# Altium footprint library Connector_PinSocket_2.54mm.PcbLib: 278 footprints (part 1 of 18)
Each footprint in its own frame and in the unit in brackets; x right, y up, seen from the top. Pads: shape width x height; smd on the part's side, far side on the other; paste and mask are expansions set on the pad; w line width, h text height; cw(c..) or ccw(c..) is an arc to the next point about the centre after c.
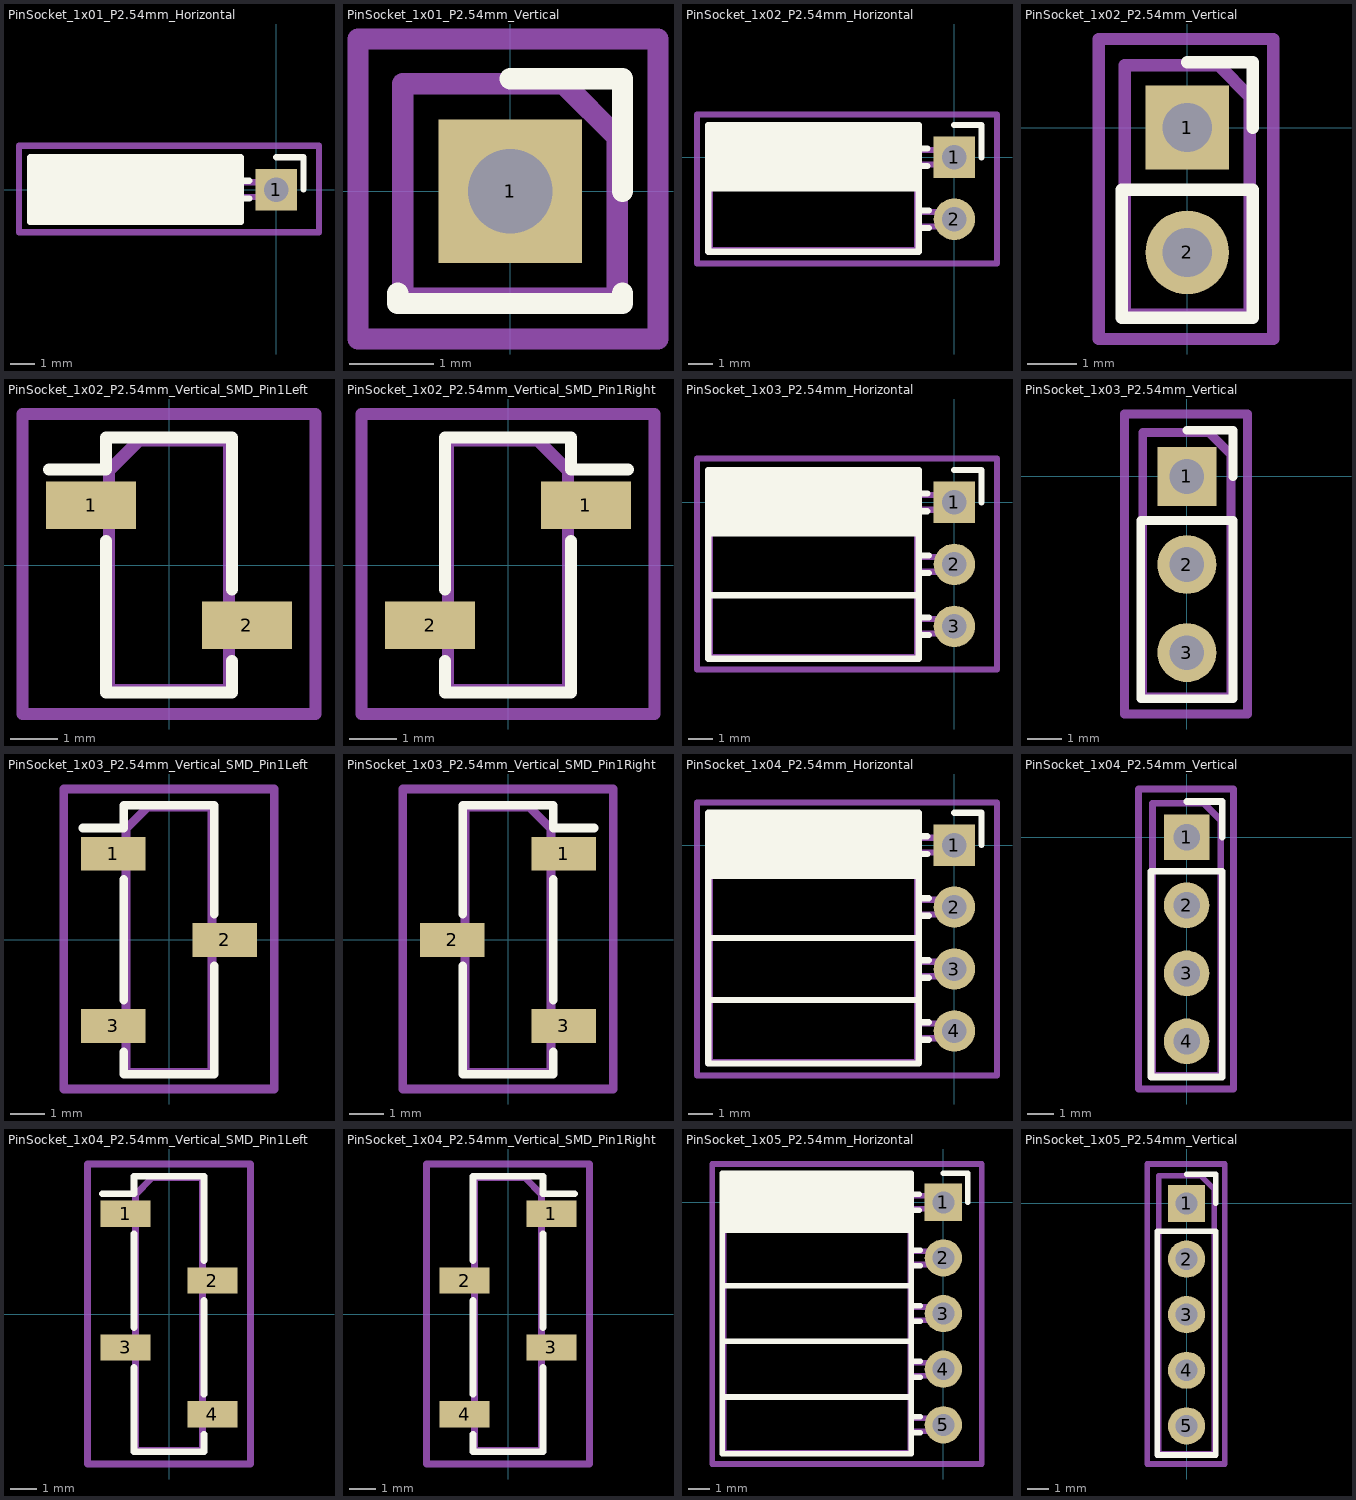
[diagram p0: the footprints below, top view; thin cyan lines are the x and y axes]

## PinSocket_1x01_P2.54mm_Horizontal [mm]
pads (1):
  rect 1.7x1.7 hole 1: 1(0,0)
F.SilkS:
  lines w0.254: -10.09,-1.215 -1.46,-1.215 ; -10.09,-1.099 -1.46,-1.099 ; -10.09,-0.984 -1.46,-0.984 ; -10.09,-0.868 -1.46,-0.868 ; -10.09,-0.753 -1.46,-0.753 ; -10.09,-0.637 -1.46,-0.637 ; -10.09,-0.522 -1.46,-0.522 ; -10.09,-0.406 -1.46,-0.406 ; -10.09,-0.291 -1.46,-0.291 ; -10.09,-0.175 -1.46,-0.175 ; -10.09,-0.06 -1.46,-0.06 ; -10.09,0.055 -1.46,0.055 ; -10.09,0.171 -1.46,0.171 ; -10.09,0.286 -1.46,0.286 ; -10.09,0.402 -1.46,0.402 ; -10.09,0.517 -1.46,0.517 ; -10.09,0.633 -1.46,0.633 ; -10.09,0.748 -1.46,0.748 ; -10.09,0.864 -1.46,0.864 ; -10.09,0.979 -1.46,0.979 ; -10.09,1.095 -1.46,1.095 ; -10.09,1.21 -1.46,1.21 ; -1.46,-0.36 -1.11,-0.36 ; -1.46,0.36 -1.11,0.36 ; 0,1.33 1.11,1.33 1.11,0 ; -10.09,-1.33 -1.46,-1.33 -1.46,1.33 -10.09,1.33 -10.09,-1.33
Top Assembly:
  lines w0.254: -1.52,-0.3 0,-0.3 0,0.3 -1.52,0.3 ; -10.03,-1.27 -1.52,-1.27 -1.52,0.635 -2.155,1.27 -10.03,1.27 -10.03,-1.27
  text "'.Designator'" at -9.822,-0.84 h1
Top Courtyard:
  lines w0.254: -10.55,-1.75 1.75,-1.75 1.75,1.8 -10.55,1.8 -10.55,-1.75
Top Designator:
  text ".Designator" at -12.018,-0.483 h1.52

## PinSocket_1x01_P2.54mm_Vertical [mm]
pads (1):
  rect 1.7x1.7 hole 1: 1(0,0)
F.SilkS:
  lines w0.254: -1.33,-1.21 -1.33,-1.33 1.33,-1.33 1.33,-1.21 ; 0,1.33 1.33,1.33 1.33,0
Top Assembly:
  lines w0.254: -1.27,-1.27 1.27,-1.27 1.27,0.635 0.635,1.27 -1.27,1.27 -1.27,-1.27
  text "'.Designator'" at -4.047,-0.84 h1
Top Courtyard:
  lines w0.254: -1.8,-1.75 1.75,-1.75 1.75,1.8 -1.8,1.8 -1.8,-1.75
Top Designator:
  text ".Designator" at -7.768,-0.483 h1.52

## PinSocket_1x02_P2.54mm_Horizontal [mm]
pads (2):
  rect 1.7x1.7 hole 1: 1(0,0)
  round 1.7 hole 1: 2(0,-2.54)
F.SilkS:
  lines w0.254: -10.09,-1.27 -1.46,-1.27 ; -10.09,-1.152 -1.46,-1.152 ; -10.09,-1.034 -1.46,-1.034 ; -10.09,-0.916 -1.46,-0.916 ; -10.09,-0.798 -1.46,-0.798 ; -10.09,-0.68 -1.46,-0.68 ; -10.09,-0.561 -1.46,-0.561 ; -10.09,-0.443 -1.46,-0.443 ; -10.09,-0.325 -1.46,-0.325 ; -10.09,-0.207 -1.46,-0.207 ; -10.09,-0.089 -1.46,-0.089 ; -10.09,0.029 -1.46,0.029 ; -10.09,0.147 -1.46,0.147 ; -10.09,0.265 -1.46,0.265 ; -10.09,0.383 -1.46,0.383 ; -10.09,0.501 -1.46,0.501 ; -10.09,0.62 -1.46,0.62 ; -10.09,0.738 -1.46,0.738 ; -10.09,0.856 -1.46,0.856 ; -10.09,0.974 -1.46,0.974 ; -10.09,1.092 -1.46,1.092 ; -10.09,1.21 -1.46,1.21 ; -1.46,-2.9 -1.05,-2.9 ; -1.46,-2.18 -1.05,-2.18 ; -1.46,-0.36 -1.11,-0.36 ; -1.46,0.36 -1.11,0.36 ; 0,1.33 1.11,1.33 1.11,0 ; -10.09,-3.87 -1.46,-3.87 -1.46,1.33 -10.09,1.33 -10.09,-3.87
Top Assembly:
  lines w0.254: -1.52,-2.84 0,-2.84 0,-2.24 -1.52,-2.24 ; -1.52,-0.3 0,-0.3 0,0.3 -1.52,0.3 ; -1.52,0.3 -1.52,-3.81 -10.03,-3.81 -10.03,1.27 -2.49,1.27 -1.52,0.3
  text "'.Designator'" at -9.822,-2.11 h1
Top Courtyard:
  lines w0.254: -10.55,-4.35 1.75,-4.35 1.75,1.75 -10.55,1.75 -10.55,-4.35
Top Designator:
  text ".Designator" at -12.018,-1.808 h1.52

## PinSocket_1x02_P2.54mm_Vertical [mm]
pads (2):
  rect 1.7x1.7 hole 1: 1(0,0)
  round 1.7 hole 1: 2(0,-2.54)
F.SilkS:
  lines w0.254: 0,1.33 1.33,1.33 1.33,0 ; -1.33,-3.87 1.33,-3.87 1.33,-1.27 -1.33,-1.27 -1.33,-3.87
Top Assembly:
  lines w0.254: -1.27,-3.81 1.27,-3.81 1.27,0.635 0.635,1.27 -1.27,1.27 -1.27,-3.81
  text "'.Designator'" at 0.84,-5.317 h1
Top Courtyard:
  lines w0.254: -1.8,-4.3 1.75,-4.3 1.75,1.8 -1.8,1.8 -1.8,-4.3
Top Designator:
  text ".Designator" at -7.643,-1.928 h1.52

## PinSocket_1x02_P2.54mm_Vertical_SMD_Pin1Left [mm]
pads (2):
  rect 1.9x1 smd: 1(-1.65,1.27) 2(1.65,-1.27)
F.SilkS:
  lines w0.254: -2.54,2.03 -1.33,2.03 -1.33,2.7 1.33,2.7 1.33,-0.51 ; -1.33,0.51 -1.33,-2.7 1.33,-2.7 1.33,-2.03
Top Assembly:
  lines w0.254: -1.27,0.97 -2.27,0.97 -2.27,1.57 -1.27,1.57 ; 1.27,-1.57 2.27,-1.57 2.27,-0.97 1.27,-0.97 ; -1.27,-2.64 1.27,-2.64 1.27,2.64 -0.635,2.64 -1.27,2.005 -1.27,-2.64
  text "'.Designator'" at 0.84,-4.047 h1
Top Courtyard:
  lines w0.254: -3.1,-3.15 3.1,-3.15 3.1,3.2 -3.1,3.2 -3.1,-3.15
Top Designator:
  text ".Designator" at -7.618,-0.658 h1.52

## PinSocket_1x02_P2.54mm_Vertical_SMD_Pin1Right [mm]
pads (2):
  rect 1.9x1 smd: 1(1.65,1.27) 2(-1.65,-1.27)
F.SilkS:
  lines w0.254: -1.33,-2.03 -1.33,-2.7 1.33,-2.7 1.33,0.51 ; -1.33,-0.51 -1.33,2.7 1.33,2.7 1.33,2.03 2.54,2.03
Top Assembly:
  lines w0.254: -1.27,-1.57 -2.27,-1.57 -2.27,-0.97 -1.27,-0.97 ; 1.27,0.97 2.27,0.97 2.27,1.57 1.27,1.57 ; -1.27,-2.64 1.27,-2.64 1.27,2.005 0.635,2.64 -1.27,2.64 -1.27,-2.64
  text "'.Designator'" at 0.84,-4.047 h1
Top Courtyard:
  lines w0.254: -3.1,-3.15 3.1,-3.15 3.1,3.2 -3.1,3.2 -3.1,-3.15
Top Designator:
  text ".Designator" at -7.618,-0.658 h1.52

## PinSocket_1x03_P2.54mm_Horizontal [mm]
pads (3):
  rect 1.7x1.7 hole 1: 1(0,0)
  round 1.7 hole 1: 2(0,-2.54) 3(0,-5.08)
F.SilkS:
  lines w0.254: -10.09,-3.81 -1.46,-3.81 ; -10.09,-1.27 -1.46,-1.27 ; -10.09,-1.152 -1.46,-1.152 ; -10.09,-1.034 -1.46,-1.034 ; -10.09,-0.916 -1.46,-0.916 ; -10.09,-0.798 -1.46,-0.798 ; -10.09,-0.68 -1.46,-0.68 ; -10.09,-0.561 -1.46,-0.561 ; -10.09,-0.443 -1.46,-0.443 ; -10.09,-0.325 -1.46,-0.325 ; -10.09,-0.207 -1.46,-0.207 ; -10.09,-0.089 -1.46,-0.089 ; -10.09,0.029 -1.46,0.029 ; -10.09,0.147 -1.46,0.147 ; -10.09,0.265 -1.46,0.265 ; -10.09,0.383 -1.46,0.383 ; -10.09,0.501 -1.46,0.501 ; -10.09,0.62 -1.46,0.62 ; -10.09,0.738 -1.46,0.738 ; -10.09,0.856 -1.46,0.856 ; -10.09,0.974 -1.46,0.974 ; -10.09,1.092 -1.46,1.092 ; -10.09,1.21 -1.46,1.21 ; -1.46,-5.44 -1.05,-5.44 ; -1.46,-4.72 -1.05,-4.72 ; -1.46,-2.9 -1.05,-2.9 ; -1.46,-2.18 -1.05,-2.18 ; -1.46,-0.36 -1.11,-0.36 ; -1.46,0.36 -1.11,0.36 ; 0,1.33 1.11,1.33 1.11,0 ; -10.09,-6.41 -1.46,-6.41 -1.46,1.33 -10.09,1.33 -10.09,-6.41
Top Assembly:
  lines w0.254: -1.52,-5.38 0,-5.38 0,-4.78 -1.52,-4.78 ; -1.52,-2.84 0,-2.84 0,-2.24 -1.52,-2.24 ; -1.52,-0.3 0,-0.3 0,0.3 -1.52,0.3 ; -1.52,0.3 -1.52,-6.35 -10.03,-6.35 -10.03,1.27 -2.49,1.27 -1.52,0.3
  text "'.Designator'" at -9.822,-3.38 h1
Top Courtyard:
  lines w0.254: -10.55,-6.85 1.75,-6.85 1.75,1.8 -10.55,1.8 -10.55,-6.85
Top Designator:
  text ".Designator" at -12.018,-3.033 h1.52

## PinSocket_1x03_P2.54mm_Vertical [mm]
pads (3):
  rect 1.7x1.7 hole 1: 1(0,0)
  round 1.7 hole 1: 2(0,-2.54) 3(0,-5.08)
F.SilkS:
  lines w0.254: 0,1.33 1.33,1.33 1.33,0 ; -1.33,-6.41 1.33,-6.41 1.33,-1.27 -1.33,-1.27 -1.33,-6.41
Top Assembly:
  lines w0.254: -1.27,-6.35 1.27,-6.35 1.27,0.635 0.635,1.27 -1.27,1.27 -1.27,-6.35
  text "'.Designator'" at 0.84,-6.587 h1
Top Courtyard:
  lines w0.254: -1.8,-6.85 1.75,-6.85 1.75,1.8 -1.8,1.8 -1.8,-6.85
Top Designator:
  text ".Designator" at -7.643,-3.033 h1.52

## PinSocket_1x03_P2.54mm_Vertical_SMD_Pin1Left [mm]
pads (3):
  rect 1.9x1 smd: 1(-1.65,2.54) 2(1.65,0) 3(-1.65,-2.54)
F.SilkS:
  lines w0.254: -2.54,3.3 -1.33,3.3 -1.33,3.97 1.33,3.97 1.33,0.76 ; -1.33,-3.3 -1.33,-3.97 1.33,-3.97 1.33,-0.76 ; -1.33,-1.78 -1.33,1.78
Top Assembly:
  lines w0.254: -1.27,-2.84 -2.27,-2.84 -2.27,-2.24 -1.27,-2.24 ; -1.27,2.24 -2.27,2.24 -2.27,2.84 -1.27,2.84 ; 1.27,-0.3 2.27,-0.3 2.27,0.3 1.27,0.3 ; -1.27,-3.91 1.27,-3.91 1.27,3.91 -0.635,3.91 -1.27,3.275 -1.27,-3.91
  text "'.Designator'" at 0.84,-4.047 h1
Top Courtyard:
  lines w0.254: -3.1,-4.4 3.1,-4.4 3.1,4.45 -3.1,4.45 -3.1,-4.4
Top Designator:
  text ".Designator" at -7.618,-0.483 h1.52

## PinSocket_1x03_P2.54mm_Vertical_SMD_Pin1Right [mm]
pads (3):
  rect 1.9x1 smd: 1(1.65,2.54) 2(-1.65,0) 3(1.65,-2.54)
F.SilkS:
  lines w0.254: -1.33,-0.76 -1.33,-3.97 1.33,-3.97 1.33,-3.3 ; -1.33,0.76 -1.33,3.97 1.33,3.97 1.33,3.3 2.54,3.3 ; 1.33,-1.78 1.33,1.78
Top Assembly:
  lines w0.254: -1.27,-0.3 -2.27,-0.3 -2.27,0.3 -1.27,0.3 ; 1.27,-2.84 2.27,-2.84 2.27,-2.24 1.27,-2.24 ; 1.27,2.24 2.27,2.24 2.27,2.84 1.27,2.84 ; -1.27,-3.91 1.27,-3.91 1.27,3.275 0.635,3.91 -1.27,3.91 -1.27,-3.91
  text "'.Designator'" at 0.84,-4.047 h1
Top Courtyard:
  lines w0.254: -3.1,-4.4 3.1,-4.4 3.1,4.45 -3.1,4.45 -3.1,-4.4
Top Designator:
  text ".Designator" at -7.618,-0.483 h1.52

## PinSocket_1x04_P2.54mm_Horizontal [mm]
pads (4):
  rect 1.7x1.7 hole 1: 1(0,0)
  round 1.7 hole 1: 2(0,-2.54) 3(0,-5.08) 4(0,-7.62)
F.SilkS:
  lines w0.254: -10.09,-6.35 -1.46,-6.35 ; -10.09,-3.81 -1.46,-3.81 ; -10.09,-1.27 -1.46,-1.27 ; -10.09,-1.152 -1.46,-1.152 ; -10.09,-1.034 -1.46,-1.034 ; -10.09,-0.916 -1.46,-0.916 ; -10.09,-0.798 -1.46,-0.798 ; -10.09,-0.68 -1.46,-0.68 ; -10.09,-0.561 -1.46,-0.561 ; -10.09,-0.443 -1.46,-0.443 ; -10.09,-0.325 -1.46,-0.325 ; -10.09,-0.207 -1.46,-0.207 ; -10.09,-0.089 -1.46,-0.089 ; -10.09,0.029 -1.46,0.029 ; -10.09,0.147 -1.46,0.147 ; -10.09,0.265 -1.46,0.265 ; -10.09,0.383 -1.46,0.383 ; -10.09,0.501 -1.46,0.501 ; -10.09,0.62 -1.46,0.62 ; -10.09,0.738 -1.46,0.738 ; -10.09,0.856 -1.46,0.856 ; -10.09,0.974 -1.46,0.974 ; -10.09,1.092 -1.46,1.092 ; -10.09,1.21 -1.46,1.21 ; -1.46,-7.98 -1.05,-7.98 ; -1.46,-7.26 -1.05,-7.26 ; -1.46,-5.44 -1.05,-5.44 ; -1.46,-4.72 -1.05,-4.72 ; -1.46,-2.9 -1.05,-2.9 ; -1.46,-2.18 -1.05,-2.18 ; -1.46,-0.36 -1.11,-0.36 ; -1.46,0.36 -1.11,0.36 ; 0,1.33 1.11,1.33 1.11,0 ; -10.09,-8.95 -1.46,-8.95 -1.46,1.33 -10.09,1.33 -10.09,-8.95
Top Assembly:
  lines w0.254: -1.52,-7.92 0,-7.92 0,-7.32 -1.52,-7.32 ; -1.52,-5.38 0,-5.38 0,-4.78 -1.52,-4.78 ; -1.52,-2.84 0,-2.84 0,-2.24 -1.52,-2.24 ; -1.52,-0.3 0,-0.3 0,0.3 -1.52,0.3 ; -1.52,0.3 -1.52,-8.89 -10.03,-8.89 -10.03,1.27 -2.49,1.27 -1.52,0.3
  text "'.Designator'" at -4.935,-7.857 h1
Top Courtyard:
  lines w0.254: -10.55,-9.45 1.75,-9.45 1.75,1.75 -10.55,1.75 -10.55,-9.45
Top Designator:
  text ".Designator" at -12.018,-4.358 h1.52

## PinSocket_1x04_P2.54mm_Vertical [mm]
pads (4):
  rect 1.7x1.7 hole 1: 1(0,0)
  round 1.7 hole 1: 2(0,-2.54) 3(0,-5.08) 4(0,-7.62)
F.SilkS:
  lines w0.254: 0,1.33 1.33,1.33 1.33,0 ; -1.33,-8.95 1.33,-8.95 1.33,-1.27 -1.33,-1.27 -1.33,-8.95
Top Assembly:
  lines w0.254: -1.27,-8.89 1.27,-8.89 1.27,0.635 0.635,1.27 -1.27,1.27 -1.27,-8.89
  text "'.Designator'" at 0.84,-7.857 h1
Top Courtyard:
  lines w0.254: -1.8,-9.4 1.75,-9.4 1.75,1.8 -1.8,1.8 -1.8,-9.4
Top Designator:
  text ".Designator" at -7.643,-4.308 h1.52

## PinSocket_1x04_P2.54mm_Vertical_SMD_Pin1Left [mm]
pads (4):
  rect 1.9x1 smd: 1(-1.65,3.81) 2(1.65,1.27) 3(-1.65,-1.27) 4(1.65,-3.81)
F.SilkS:
  lines w0.254: -2.54,4.57 -1.33,4.57 -1.33,5.24 1.33,5.24 1.33,2.03 ; -1.33,-2.03 -1.33,-5.24 1.33,-5.24 1.33,-4.57 ; -1.33,-0.51 -1.33,3.05 ; 1.33,-3.05 1.33,0.51
Top Assembly:
  lines w0.254: -1.27,-1.57 -2.27,-1.57 -2.27,-0.97 -1.27,-0.97 ; -1.27,3.51 -2.27,3.51 -2.27,4.11 -1.27,4.11 ; 1.27,-4.11 2.27,-4.11 2.27,-3.51 1.27,-3.51 ; 1.27,0.97 2.27,0.97 2.27,1.57 1.27,1.57 ; -1.27,-5.18 1.27,-5.18 1.27,5.18 -0.635,5.18 -1.27,4.545 -1.27,-5.18
  text "'.Designator'" at 0.84,-4.047 h1
Top Courtyard:
  lines w0.254: -3.1,-5.7 3.1,-5.7 3.1,5.7 -3.1,5.7 -3.1,-5.7
Top Designator:
  text ".Designator" at -7.618,-0.508 h1.52

## PinSocket_1x04_P2.54mm_Vertical_SMD_Pin1Right [mm]
pads (4):
  rect 1.9x1 smd: 1(1.65,3.81) 2(-1.65,1.27) 3(1.65,-1.27) 4(-1.65,-3.81)
F.SilkS:
  lines w0.254: -1.33,-4.57 -1.33,-5.24 1.33,-5.24 1.33,-2.03 ; -1.33,-3.05 -1.33,0.51 ; -1.33,2.03 -1.33,5.24 1.33,5.24 1.33,4.57 2.54,4.57 ; 1.33,-0.51 1.33,3.05
Top Assembly:
  lines w0.254: -1.27,-4.11 -2.27,-4.11 -2.27,-3.51 -1.27,-3.51 ; -1.27,0.97 -2.27,0.97 -2.27,1.57 -1.27,1.57 ; 1.27,-1.57 2.27,-1.57 2.27,-0.97 1.27,-0.97 ; 1.27,3.51 2.27,3.51 2.27,4.11 1.27,4.11 ; -1.27,-5.18 1.27,-5.18 1.27,4.545 0.635,5.18 -1.27,5.18 -1.27,-5.18
  text "'.Designator'" at 0.84,-4.047 h1
Top Courtyard:
  lines w0.254: -3.1,-5.7 3.1,-5.7 3.1,5.7 -3.1,5.7 -3.1,-5.7
Top Designator:
  text ".Designator" at -7.618,-0.508 h1.52

## PinSocket_1x05_P2.54mm_Horizontal [mm]
pads (5):
  rect 1.7x1.7 hole 1: 1(0,0)
  round 1.7 hole 1: 2(0,-2.54) 3(0,-5.08) 4(0,-7.62) 5(0,-10.16)
F.SilkS:
  lines w0.254: -10.09,-8.89 -1.46,-8.89 ; -10.09,-6.35 -1.46,-6.35 ; -10.09,-3.81 -1.46,-3.81 ; -10.09,-1.27 -1.46,-1.27 ; -10.09,-1.152 -1.46,-1.152 ; -10.09,-1.034 -1.46,-1.034 ; -10.09,-0.916 -1.46,-0.916 ; -10.09,-0.798 -1.46,-0.798 ; -10.09,-0.68 -1.46,-0.68 ; -10.09,-0.561 -1.46,-0.561 ; -10.09,-0.443 -1.46,-0.443 ; -10.09,-0.325 -1.46,-0.325 ; -10.09,-0.207 -1.46,-0.207 ; -10.09,-0.089 -1.46,-0.089 ; -10.09,0.029 -1.46,0.029 ; -10.09,0.147 -1.46,0.147 ; -10.09,0.265 -1.46,0.265 ; -10.09,0.383 -1.46,0.383 ; -10.09,0.501 -1.46,0.501 ; -10.09,0.62 -1.46,0.62 ; -10.09,0.738 -1.46,0.738 ; -10.09,0.856 -1.46,0.856 ; -10.09,0.974 -1.46,0.974 ; -10.09,1.092 -1.46,1.092 ; -10.09,1.21 -1.46,1.21 ; -1.46,-10.52 -1.05,-10.52 ; -1.46,-9.8 -1.05,-9.8 ; -1.46,-7.98 -1.05,-7.98 ; -1.46,-7.26 -1.05,-7.26 ; -1.46,-5.44 -1.05,-5.44 ; -1.46,-4.72 -1.05,-4.72 ; -1.46,-2.9 -1.05,-2.9 ; -1.46,-2.18 -1.05,-2.18 ; -1.46,-0.36 -1.11,-0.36 ; -1.46,0.36 -1.11,0.36 ; 0,1.33 1.11,1.33 1.11,0 ; -10.09,-11.49 -1.46,-11.49 -1.46,1.33 -10.09,1.33 -10.09,-11.49
Top Assembly:
  lines w0.254: -1.52,-10.46 0,-10.46 0,-9.86 -1.52,-9.86 ; -1.52,-7.92 0,-7.92 0,-7.32 -1.52,-7.32 ; -1.52,-5.38 0,-5.38 0,-4.78 -1.52,-4.78 ; -1.52,-2.84 0,-2.84 0,-2.24 -1.52,-2.24 ; -1.52,-0.3 0,-0.3 0,0.3 -1.52,0.3 ; -1.52,0.3 -1.52,-11.43 -10.03,-11.43 -10.03,1.27 -2.49,1.27 -1.52,0.3
  text "'.Designator'" at -4.935,-9.127 h1
Top Courtyard:
  lines w0.254: -10.55,-11.95 1.75,-11.95 1.75,1.75 -10.55,1.75 -10.55,-11.95
Top Designator:
  text ".Designator" at -12.018,-5.608 h1.52

## PinSocket_1x05_P2.54mm_Vertical [mm]
pads (5):
  rect 1.7x1.7 hole 1: 1(0,0)
  round 1.7 hole 1: 2(0,-2.54) 3(0,-5.08) 4(0,-7.62) 5(0,-10.16)
F.SilkS:
  lines w0.254: 0,1.33 1.33,1.33 1.33,0 ; -1.33,-11.49 1.33,-11.49 1.33,-1.27 -1.33,-1.27 -1.33,-11.49
Top Assembly:
  lines w0.254: -1.27,-11.43 1.27,-11.43 1.27,0.635 0.635,1.27 -1.27,1.27 -1.27,-11.43
  text "'.Designator'" at 0.84,-9.127 h1
Top Courtyard:
  lines w0.254: -1.8,-11.9 1.75,-11.9 1.75,1.8 -1.8,1.8 -1.8,-11.9
Top Designator:
  text ".Designator" at -7.643,-5.558 h1.52